# EAGLE library part TPS61070 (library JLB6_power)
Switching regulator 0.9v 200mA
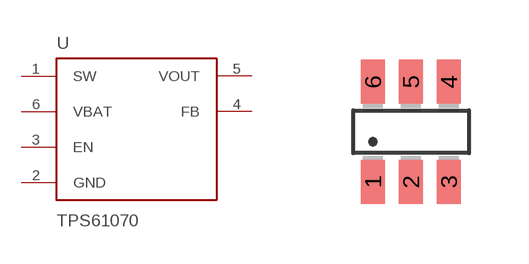
[diagram p7: symbol with the pads of SOT23-6; footprint SOT23-6]

Designator prefix U

## TPS61070  [SOT23-6]
1  SW  in
2  GND  pwr
3  EN  in
4  FB  in
5  VOUT
6  VBAT  in

## Footprint SOT23-6 (pad centres in mm)
smd 0.6 x 1.1: 1 -0.95,-1.251; 2 0,-1.251; 3 0.95,-1.251; 4 0.95,1.251; 5 0,1.251; 6 -0.95,1.251